# EAGLE library part TG12864E-02A_TG12864E-02A (library untitled)
TG12864E-02A http://akizukidenshi.com/catalog/g/gP-04257/
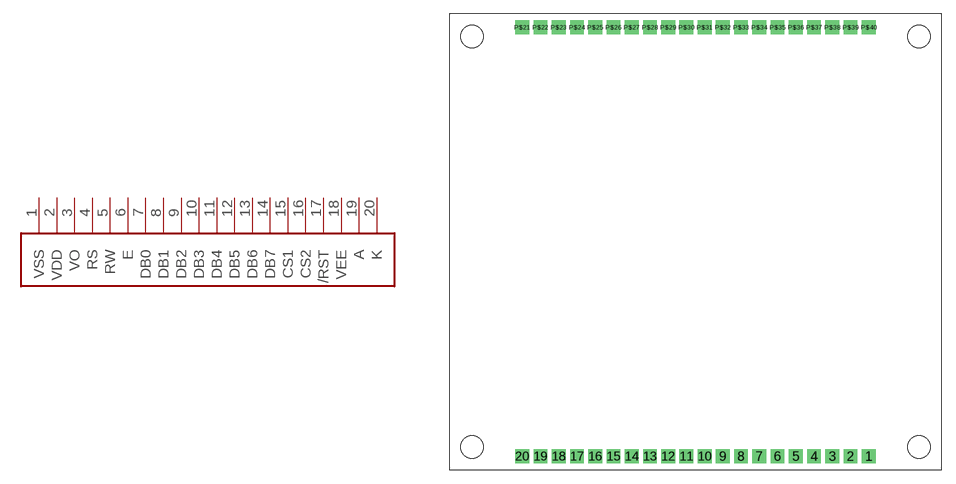
[diagram p1: symbol with the pads of TG12864E-02A_TG12864E-02A; footprint TG12864E-02A_TG12864E-02A]

Designator prefix TG12864E-02A

## TG12864E-02A_TG12864E-02A  [TG12864E-02A_TG12864E-02A]
1  VSS
2  VDD
3  VO
4  RS
5  RW
6  E
7  DB0
8  DB1
9  DB2
10  DB3
11  DB4
12  DB5
13  DB6
14  DB7
15  CS1
16  CS2
17  /RST
18  VEE
19  A
20  K

## Footprint TG12864E-02A_TG12864E-02A (pad centres in mm)
TG12864E-02A http://akizukidenshi.com/catalog/g/gP-04257/
drill 1 square: 1 46,1.5; 2 44,1.5; 3 42,1.5; 4 40,1.5; 5 38,1.5; 6 36,1.5; 7 34,1.5; 8 32,1.5; 9 30,1.5; 10 28,1.5; 11 26,1.5; 12 24,1.5; 13 22,1.5; 14 20,1.5; 15 18,1.5; 16 16,1.5; 17 14,1.5; 18 12,1.5; 19 10,1.5; 20 8,1.5; P$21 8,48.5; P$22 10,48.5; P$23 12,48.5; P$24 14,48.5; P$25 16,48.5; P$26 18,48.5; P$27 20,48.5; P$28 22,48.5; P$29 24,48.5; P$30 26,48.5; P$31 28,48.5; P$32 30,48.5; P$33 32,48.5; P$34 34,48.5; P$35 36,48.5; P$36 38,48.5; P$37 40,48.5; P$38 42,48.5; P$39 44,48.5; P$40 46,48.5
hole 2.5 at 2.5,2.5
hole 2.5 at 2.5,47.5
hole 2.5 at 51.5,47.5
hole 2.5 at 51.5,2.5